# Altium footprint library CON_LIB.PcbLib: 13 footprints
Each footprint in its own frame and in the unit in brackets; x right, y up, seen from the top. Pads: shape width x height; smd on the part's side, far side on the other; paste and mask are expansions set on the pad; w line width, h text height; cw(c..) or ccw(c..) is an arc to the next point about the centre after c.
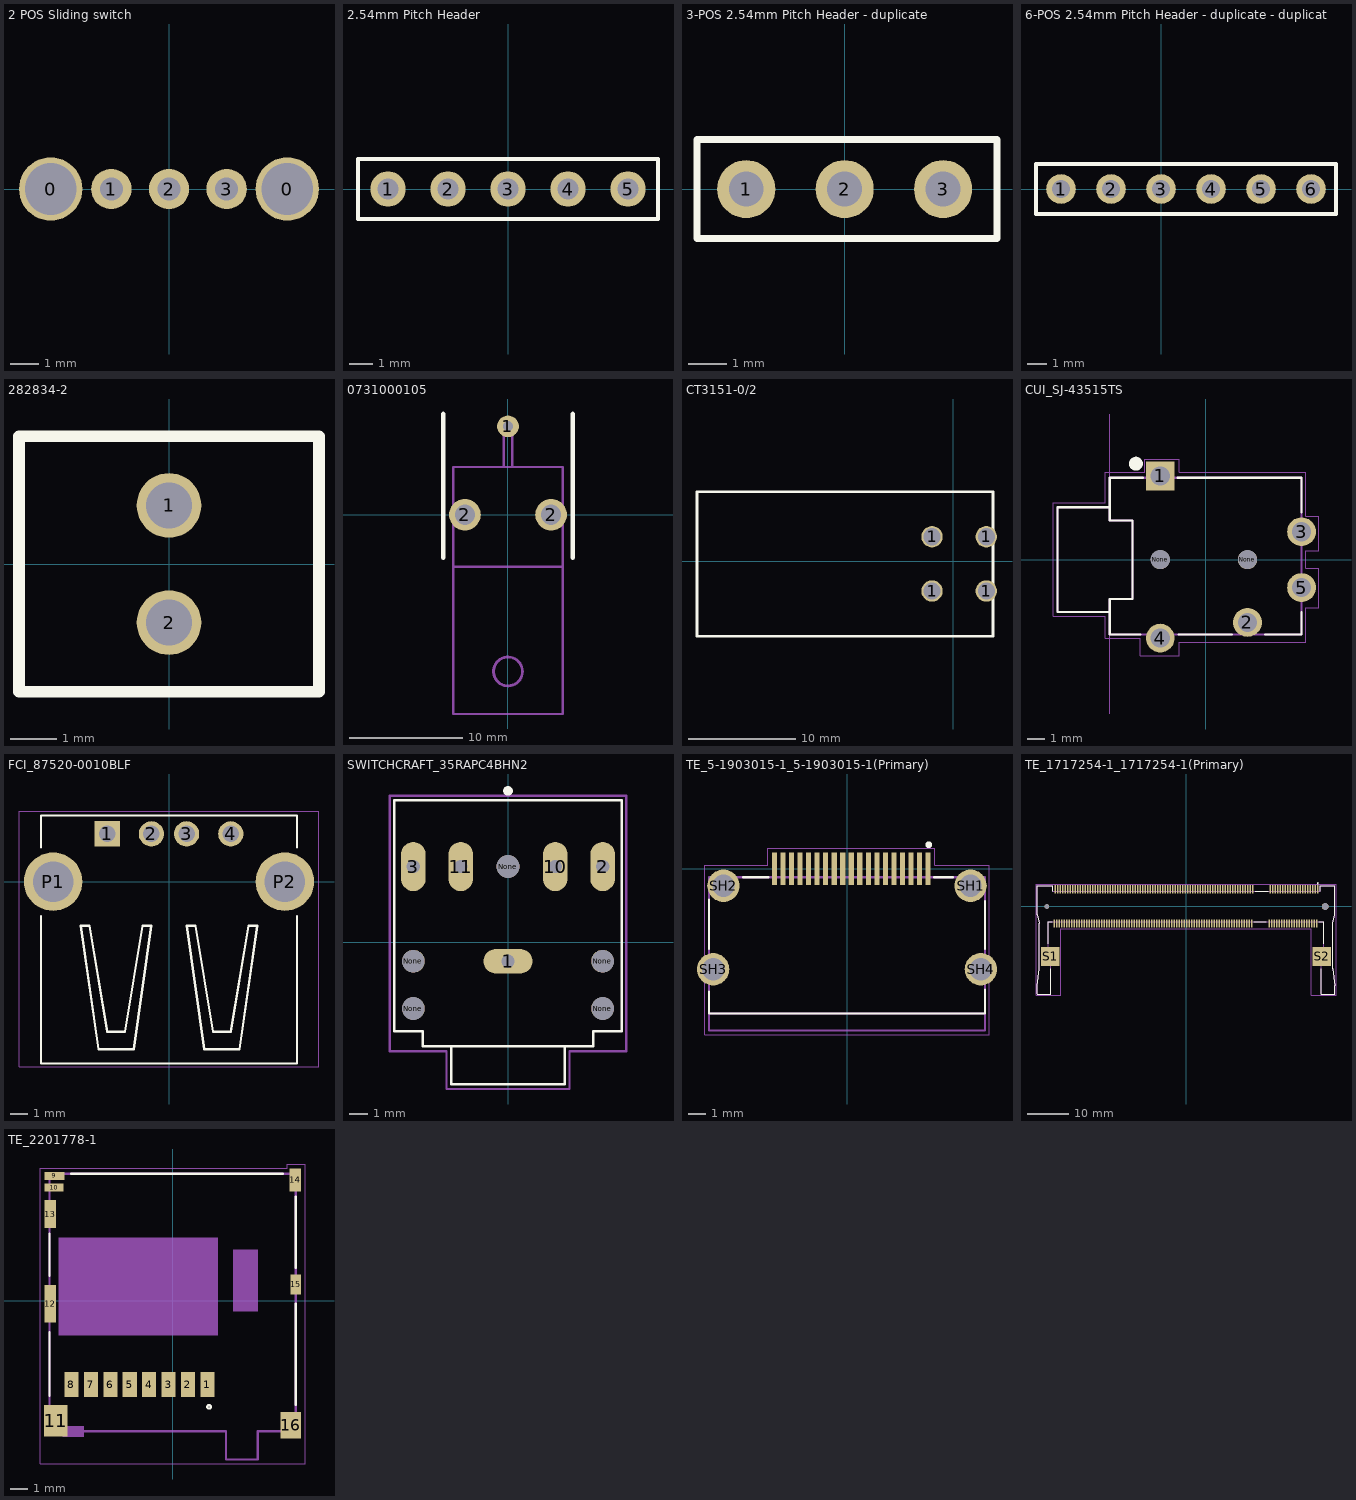
[diagram p0: the footprints below, top view; thin cyan lines are the x and y axes]

## 2 POS Sliding switch [mm]
pads (5):
  round 2.2 hole 1.8: 0(-4.1,0) 0(4.1,0)
  round 1.4 hole 0.8: 1(-2,0) 2(0,0) 3(2,0)

## 2.54mm Pitch Header [mm] "2.54mm Pitch Header"
pads (5):
  round 1.5 hole 0.9: 1(-5.08,0) 2(-2.54,0) 3(0,0) 4(2.54,0) 5(5.08,0)
Top Overlay:
  lines w0.18: -6.35,-1.27 -6.35,1.27 6.35,1.27 6.35,-1.27 -6.35,-1.27

## 3-POS 2.54mm Pitch Header - duplicate [mm] "2.54mm Pitch Header"
pads (3):
  round 1.5 hole 0.9: 1(-2.54,0) 2(0,0) 3(2.54,0)
Top Overlay:
  lines w0.18: -3.81,-1.27 -3.81,1.275 3.93,1.275 3.93,0.635 3.93,-0.635 3.93,-1.27 -3.81,-1.27

## 6-POS 2.54mm Pitch Header - duplicate - duplicate [mm] "2.54mm Pitch Header"
pads (6):
  round 1.5 hole 0.9: 1(-5.08,0) 2(-2.54,0) 3(0,0) 4(2.54,0) 5(5.08,0) 6(7.62,0)
Top Overlay:
  lines w0.18: -6.35,-1.27 8.89,-1.27 8.89,-0.635 8.89,0.635 8.89,1.27 -6.35,1.27 -6.35,-1.27

## 282834-2 [mm] "2 Position Wire to Board Terminal Block Horizonta"
pads (2):
  round 1.4 hole 1: 1(0,1.27) 2(0,-1.27)
Top Overlay:
  lines w0.254: -3.25,-2.77 -3.25,2.77 3.25,2.77 3.25,-2.77 -3.25,-2.77

## 0731000105 [mm] "BNC Connector Jack, Female Socket 50Ohm Through Hole, Right Angle Solder"
pads (3):
  round 1.92 hole 0.92: 1(0,7.8)
  round 2.8 hole 1.8: 2(-3.8,0) 2(3.8,0)
Top Overlay:
  lines w0.4: -5.715,-3.81 -5.715,8.89 ; 5.715,-3.81 5.715,8.89
Mechanical 11:
  circle w0.254: c0,-13.843 r1.276
  lines w0.2: -4.826,-4.6 4.824,-4.6 ; -0.375,4.2 -0.375,7.8 ; 0.375,4.2 0.375,7.8 ; -4.825,-17.6 4.825,-17.6 4.825,4.2 -4.825,4.2 -4.825,-17.6

## CT3151-0/2 [mm] "CONN BANANA JACK SOLDER"
pads (4):
  round 2 hole 1.6: 1(-2,-2.78) 1(-2,2.3) 1(3.08,-2.78) 1(3.08,2.3)
Top Overlay:
  lines w0.254: -24,-7 -24,6.5 3.7,6.5 3.7,-7 -24,-7
3D body "CT3151-2--3DModel-STEP-56544.STEP": height 19.25, standoff -3.15, extent -24,-7 3.7,6.5

## CUI_SJ-43515TS [mm]
pads (7):
  rect 1.65x1.65 hole 1.1: 1(-2.6,4.8)
  round 1.65 hole 1.1: 2(2.4,-3.6) 3(5.5,1.6) 4(-2.6,-4.5) 5(5.5,-1.6)
  round 1.1 hole 1.1 unplated: None(-2.6,0) None(2.4,0)
Top Overlay:
  circle w0.4: c-4,5.5 r0.2
  lines w0.127: -3.75,-4.3 -5.5,-4.3 -5.5,-3 ; -3.6,4.7 -5.5,4.7 -5.5,3 ; -1.6,4.7 5.5,4.7 5.5,2.7 ; -1.55,-4.3 1.5,-4.3 ; 3.4,-4.3 5.5,-4.3 5.5,-3 ; -5.5,-3 -5.5,-2.25 -4.2,-2.25 -4.2,2.25 -5.5,2.25 -5.5,3 ; -5.5,-3 -8.5,-3 -8.5,3 -5.5,3
Mechanical 11:
  lines w0.127: -5.5,-3 -5.5,-2.25 -4.2,-2.25 -4.2,2.25 -5.5,2.25 -5.5,3 ; -5.5,-3 -5.5,-4.3 5.5,-4.3 5.5,4.7 -5.5,4.7 -5.5,3 ; -5.5,-3 -8.5,-3 -8.5,3 -5.5,3
  text "PCB EDGE" at -5.762,-8.767 h1.88
Mechanical 13:
  lines w0: -5.5,-8.85 -5.5,-2.25 -4.2,-2.25 -4.2,2.25 -5.5,2.25 -5.5,8.35
  lines w0.05: -8.75,-3.25 -5.75,-3.25 -5.75,-4.5 -3.75,-4.5 -3.75,-5.5 -1.5,-5.5 -1.5,-4.75 5.75,-4.75 5.75,-2.75 6.5,-2.75 6.5,-0.5 5.75,-0.5 5.75,0.5 6.5,0.5 6.5,2.5 5.75,2.5 5.75,5 -1.5,5 -1.5,5.75 -3.5,5.75 -3.5,5 -5.75,5 -5.75,3.25 -8.75,3.25 -8.75,-3.25
3D body "CUI_SJ-43515TS.step": height 5.29, standoff -1.96, extent -8.016,-5.334 5.984,4.866

## FCI_87520-0010BLF [mm]
pads (6):
  rect 1.428x1.428 hole 0.92: 1(-3.5,2.71)
  round 1.428 hole 0.92: 2(-1,2.71) 3(1,2.71) 4(3.5,2.71)
  round 3.316 hole 2.3: P1(-6.57,0) P2(6.57,0)
Top Overlay:
  lines w0.127: -7.25,-1.95 -7.25,-10.3 7.25,-10.3 7.25,-1.95 ; -7.25,1.95 -7.25,3.75 7.25,3.75 7.25,1.95 ; -5,-2.5 -4,-9.5 -2,-9.5 -1,-2.5 -1.5,-2.5 -2.5,-8.5 -3.5,-8.5 -4.5,-2.5 -5,-2.5 ; 1,-2.5 2,-9.5 4,-9.5 5,-2.5 4.5,-2.5 3.5,-8.5 2.5,-8.5 1.5,-2.5 1,-2.5
Mechanical 11:
  lines w0.05: -8.5,-10.5 -8.5,4 8.5,4 8.5,-10.5 -8.5,-10.5
3D body "87520-0010BLFc.stp": height 7.69, standoff -2.79, extent -7.25,-10.19 7.25,3.81

## SWITCHCRAFT_35RAPC4BHN2 [mm]
pads (10):
  oval 2.6x1.3 hole 0.7: 1(0,-1)
  oval 1.3x2.6 hole 0.7: 2(5,4) 3(-5,4) 10(2.5,4) 11(-2.5,4)
  round 1.2 hole 1.2 unplated: None(-5,-3.5) None(-5,-1) None(0,4) None(5,-3.5) None(5,-1)
Top Overlay:
  circle w0.305: c0,8 r0.1
  lines w0.127: -3,-5.5 -4.5,-5.5 -4.5,-4.7 -6,-4.7 -6,7.5 6,7.5 6,-4.7 4.5,-4.7 4.5,-5.5 3,-5.5 ; -3,-5.5 3,-5.5 ; -3,-5.5 -3,-7.5 3,-7.5 3,-5.5
Mechanical 13:
  lines w0: -5.35,3.2 -4.65,3.2 -4.65,4.8 -5.35,4.8 -5.35,3.2 ; -2.85,3.2 -2.15,3.2 -2.15,4.8 -2.85,4.8 -2.85,3.2 ; -0.8,-1.35 -0.8,-0.65 0.8,-0.65 0.8,-1.35 -0.8,-1.35 ; 2.15,3.2 2.85,3.2 2.85,4.8 2.15,4.8 2.15,3.2 ; 4.65,3.2 5.35,3.2 5.35,4.8 4.65,4.8 4.65,3.2
  lines w0.127: -6.25,-5.75 -3.25,-5.75 -3.25,-7.75 3.25,-7.75 3.25,-5.75 6.25,-5.75 6.25,7.75 -6.25,7.75 -6.25,-5.75
3D body "35RAPC4BHN2.STEP": height 5.63, standoff -2.37, extent -5.974,-7.479 6.026,7.521

## TE_5-1903015-1_5-1903015-1(Primary) [mm]
pads (23):
  rect 0.3x1.9 smd: 1(4.75,0) 2(4.25,0) 3(3.75,0) 4(3.25,0) 5(2.75,0) 6(2.25,0) 7(1.75,0) 8(1.25,0) 9(0.75,0) 10(0.25,0) 11(-0.25,0) 12(-0.75,0) 13(-1.25,0) 14(-1.75,0) 15(-2.25,0) 16(-2.75,0) 17(-3.25,0) 18(-3.75,0) 19(-4.25,0)
  round 1.9 hole 1.3: SH1(7.25,-1) SH2(-7.25,-1) SH3(-7.85,-5.9) SH4(7.85,-5.9)
Top Overlay:
  circle w0.2: c4.8,1.4 r0.1
  lines w0.127: -8.1,-7.2 -8.1,-8.5 8.1,-8.5 8.1,-7.1 ; -8.1,-4.7 -8.1,-1.8 ; -6.1,-0.5 -4.6,-0.5 ; 5.1,-0.5 6.2,-0.5 ; 8.1,-4.7 8.1,-1.9
Mechanical 11:
  lines w0.127: -8.1,-8.5 -8.1,-9.5 8.1,-9.5 8.1,-8.5 ; -8.1,-8.5 -8.1,-0.5 8.1,-0.5 8.1,-8.5 ; -8.1,-8.5 8.1,-8.5
Mechanical 13:
  lines w0.05: -8.35,-9.75 8.35,-9.75 8.35,-8.5 8.35,0.2 5.15,0.2 5.15,1.2 -4.65,1.2 -4.65,0.2 -8.35,0.2 -8.35,-8.5 -8.35,-9.75
3D body "c-5-1903015-1-s-3d.stp": height 6.1, standoff -1.9, extent -8.1,-9.525 8.1,0.325

## TE_1717254-1_1717254-1(Primary) [mm]
pads (204):
  rect 0.35x2 smd: 1(31.65,4.1) 2(31.35,-4.1) 3(31.05,4.1) 4(30.75,-4.1) 5(30.45,4.1) 6(30.15,-4.1) 7(29.85,4.1) 8(29.55,-4.1) 9(29.25,4.1) 10(28.95,-4.1) 11(28.65,4.1) 12(28.35,-4.1) 13(28.05,4.1) 14(27.75,-4.1) 15(27.45,4.1) 16(27.15,-4.1) 17(26.85,4.1) 18(26.55,-4.1) 19(26.25,4.1) 20(25.95,-4.1) 21(25.65,4.1) 22(25.35,-4.1) 23(25.05,4.1) 24(24.75,-4.1) 25(24.45,4.1) 26(24.15,-4.1) 27(23.85,4.1) 28(23.55,-4.1) 29(23.25,4.1) 30(22.95,-4.1) 31(22.65,4.1) 32(22.35,-4.1) 33(22.05,4.1) 34(21.75,-4.1) 35(21.45,4.1) 36(21.15,-4.1) 37(20.85,4.1) 38(20.55,-4.1) 39(20.25,4.1) 40(19.95,-4.1) 41(16.05,4.1) 42(15.75,-4.1) 43(15.45,4.1) 44(15.15,-4.1) 45(14.85,4.1) 46(14.55,-4.1) 47(14.25,4.1) 48(13.95,-4.1) 49(13.65,4.1) 50(13.35,-4.1) 51(13.05,4.1) 52(12.75,-4.1) 53(12.45,4.1) 54(12.15,-4.1) 55(11.85,4.1) 56(11.55,-4.1) 57(11.25,4.1) 58(10.95,-4.1) 59(10.65,4.1) 60(10.35,-4.1) 61(10.05,4.1) 62(9.75,-4.1) 63(9.45,4.1) 64(9.15,-4.1) 65(8.85,4.1) 66(8.55,-4.1) 67(8.25,4.1) 68(7.95,-4.1) 69(7.65,4.1) 70(7.35,-4.1) 71(7.05,4.1) 72(6.75,-4.1) 73(6.45,4.1) 74(6.15,-4.1) 75(5.85,4.1) 76(5.55,-4.1) 77(5.25,4.1) 78(4.95,-4.1) 79(4.65,4.1) 80(4.35,-4.1) 81(4.05,4.1) 82(3.75,-4.1) 83(3.45,4.1) 84(3.15,-4.1) 85(2.85,4.1) 86(2.55,-4.1) 87(2.25,4.1) 88(1.95,-4.1) 89(1.65,4.1) 90(1.35,-4.1) 91(1.05,4.1) 92(0.75,-4.1) 93(0.45,4.1) 94(0.15,-4.1) 95(-0.15,4.1) 96(-0.45,-4.1) 97(-0.75,4.1) 98(-1.05,-4.1) 99(-1.35,4.1) 100(-1.65,-4.1) 101(-1.95,4.1) 102(-2.25,-4.1) 103(-2.55,4.1) 104(-2.85,-4.1) 105(-3.15,4.1) 106(-3.45,-4.1) 107(-3.75,4.1) 108(-4.05,-4.1) 109(-4.35,4.1) 110(-4.65,-4.1) 111(-4.95,4.1) 112(-5.25,-4.1) 113(-5.55,4.1) 114(-5.85,-4.1) 115(-6.15,4.1) 116(-6.45,-4.1) 117(-6.75,4.1) 118(-7.05,-4.1) 119(-7.35,4.1) 120(-7.65,-4.1) 121(-7.95,4.1) 122(-8.25,-4.1) 123(-8.55,4.1) 124(-8.85,-4.1) 125(-9.15,4.1) 126(-9.45,-4.1) 127(-9.75,4.1) 128(-10.05,-4.1) 129(-10.35,4.1) 130(-10.65,-4.1) 131(-10.95,4.1) 132(-11.25,-4.1) 133(-11.55,4.1) 134(-11.85,-4.1) 135(-12.15,4.1) 136(-12.45,-4.1) 137(-12.75,4.1) 138(-13.05,-4.1) 139(-13.35,4.1) 140(-13.65,-4.1) 141(-13.95,4.1) 142(-14.25,-4.1) 143(-14.55,4.1) 144(-14.85,-4.1) 145(-15.15,4.1) 146(-15.45,-4.1) 147(-15.75,4.1) 148(-16.05,-4.1) 149(-16.35,4.1) 150(-16.65,-4.1) 151(-16.95,4.1) 152(-17.25,-4.1) 153(-17.55,4.1) 154(-17.85,-4.1) 155(-18.15,4.1) 156(-18.45,-4.1) 157(-18.75,4.1) 158(-19.05,-4.1) 159(-19.35,4.1) 160(-19.65,-4.1) 161(-19.95,4.1) 162(-20.25,-4.1) 163(-20.55,4.1) 164(-20.85,-4.1) 165(-21.15,4.1) 166(-21.45,-4.1) 167(-21.75,4.1) 168(-22.05,-4.1) 169(-22.35,4.1) 170(-22.65,-4.1) 171(-22.95,4.1) 172(-23.25,-4.1) 173(-23.55,4.1) 174(-23.85,-4.1) 175(-24.15,4.1) 176(-24.45,-4.1) 177(-24.75,4.1) 178(-25.05,-4.1) 179(-25.35,4.1) 180(-25.65,-4.1) 181(-25.95,4.1) 182(-26.25,-4.1) 183(-26.55,4.1) 184(-26.85,-4.1) 185(-27.15,4.1) 186(-27.45,-4.1) 187(-27.75,4.1) 188(-28.05,-4.1) 189(-28.35,4.1) 190(-28.65,-4.1) 191(-28.95,4.1) 192(-29.25,-4.1) 193(-29.55,4.1) 194(-29.85,-4.1) 195(-30.15,4.1) 196(-30.45,-4.1) 197(-30.75,4.1) 198(-31.05,-4.1) 199(-31.35,4.1) 200(-31.65,-4.1)
  round 1.1 hole 1.1 unplated: None(-33.4,0)
  round 1.6 hole 1.6 unplated: None(33.4,0)
  rect 4.5x4.6 smd: S1(-32.55,-12) S2(32.55,-12)
Top Overlay:
  circle w0.2: c31.65,5.55 r0.1
  lines w0.127: -35.75,-21 -32.4,-21 -32.4,-15 ; -35.75,-20.95 -35.7,-19 -35.2,-15 -35.2,-4.05 -35.75,-2 -35.75,5 -32,5 -32,3.7 ; -33,-9 -33,-3.7 -32.1,-3.7 ; 16.3,-3.7 19.3,-3.7 ; 16.6,3.7 19.7,3.7 ; 31.9,-3.7 33,-3.7 33,-9 ; 32.2,3.7 32.2,5 35.75,5 35.75,-2 35.2,-4.05 35.2,-15 35.7,-19 35.7,-20.99 ; 32.4,-15 32.4,-21 35.69,-21
Mechanical 11:
  lines w0.05: -36,-21.25 -30.05,-21.25 -30.05,-5.35 30.05,-5.35 30.05,-21.25 36,-21.25 36,5.35 -36,5.35 -36,-21.25
Mechanical 13:
  lines w0.127: -35.75,-21 -32.4,-21 -32.4,-13.7 -31.65,-13.7 -31.65,-10.1 -33,-10.1 -33,-3.7 33,-3.7 33,-10.1 31.65,-10.1 31.65,-13.7 32.4,-13.7 32.4,-21 35.69,-21 ; -35.75,-20.95 -35.7,-19 -35.2,-15 -35.2,-4.05 -35.75,-2 -35.75,5 -32,5 -32,3.7 32.2,3.7 32.2,5 35.75,5 35.75,-2 35.2,-4.05 35.2,-15 35.7,-19 35.7,-20.99
3D body "c-1717254-1-d1-3d.stp": height 5.23, standoff -0.67, extent -35.75,-21.04 35.75,5

## TE_2201778-1 [mm]
pads (16):
  rect 0.8x1.4 smd: 1(1.965,-4.75) 2(0.865,-4.75) 3(-0.235,-4.75) 4(-1.335,-4.75) 5(-2.435,-4.75) 6(-3.535,-4.75) 7(-4.635,-4.75) 8(-5.735,-4.75)
  rect 1.15x0.45 smd: 9(-6.7,7.075)
  rect 1.1x0.45 smd: 10(-6.725,6.415)
  rect 1.35x1.8 smd: 11(-6.625,-6.8)
  rect 0.65x2.14 smd: 12(-6.95,-0.17)
  rect 0.65x1.6 smd: 13(-6.95,4.91)
  rect 0.65x1.3 smd: 14(6.95,6.85)
  rect 0.6x1.15 smd: 15(6.975,0.925)
  rect 1.16x1.5 smd: 16(6.695,-7.05)
Top Overlay:
  circle w0.127: c2.06,-6.01 r0.1
  lines w0.127: -6.975,-5.38 -6.975,-1.77 ; -6.975,1.41 -6.975,3.8 ; -5.77,7.2 6.24,7.2 ; 6.975,-5.9 6.975,-0.17 ; 6.975,1.85 6.975,5.91
Mechanical 11:
  region: 3.431,2.9 4.825,2.9 4.825,-0.601 3.431,-0.601
  region: -6.455,3.57 2.565,3.57 2.565,-1.966 -6.455,-1.966
  region: -6.241,-7.1 -5.045,-7.1 -5.045,-7.719 -6.241,-7.719
  lines w0.05: -7.5,-9.25 7.5,-9.25 7.5,7.75 6.5,7.75 6.5,7.5 -7.5,7.5 -7.5,-9.25
Mechanical 13:
  lines w0.127: 6.965,-7.4 4.825,-7.4 4.825,-9 3.025,-9 3.025,-7.4 -6.975,-7.4 -6.975,7.2 6.975,7.2 6.975,-7.4
3D body "c-2201778-1-a-3d.stp": height 1.8, standoff 0, extent -7.045,-8.961 6.985,7.239